# Altium schematic symbol library SchematicSymbols.SchLib: 9 symbols
Pins are listed as number, name and electrical type; pins without a type are passive.

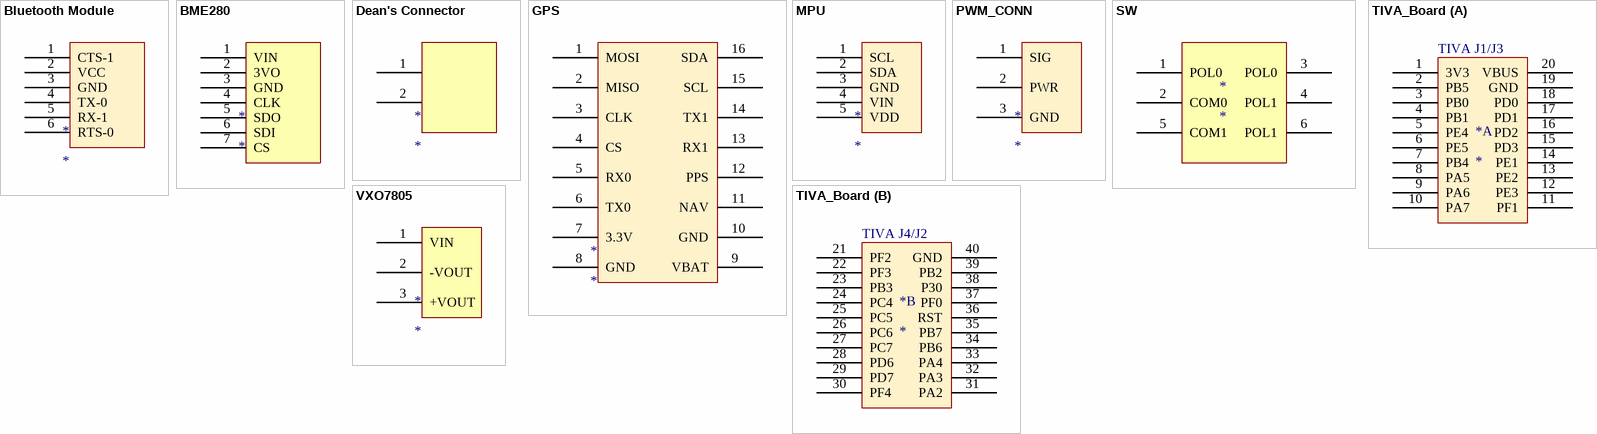
[diagram p0: symbols Bluetooth Module to VXO7805]

## Bluetooth Module
designator *
pins: 1 CTS-1, 2 VCC, 3 GND, 4 TX-0, 5 RX-1, 6 RTS-0

## BME280
designator *
footprint BME280
pins: 1 VIN, 2 3VO, 3 GND, 4 CLK, 5 SDO, 6 SDI, 7 CS

## Dean's Connector
designator *
footprint DEAN_CONN
pins: 1 (power), 2 (power)

## GPS
designator *
footprint GPS_FOOTPRINT
pins: 1 MOSI, 2 MISO, 3 CLK, 4 CS, 5 RX0, 6 TX0, 7 3.3V, 8 GND, 9 VBAT, 10 GND, 11 NAV, 12 PPS, 13 RX1, 14 TX1, 15 SCL, 16 SDA

## MPU
designator *
footprint MPU
pins: 1 SCL, 2 SDA, 3 GND, 4 VIN, 5 VDD

## PWM_CONN
designator *
pins: 1 SIG, 2 PWR, 3 GND

## SW
designator *
footprint SW
pins: 1 POL0, 2 COM0, 3 POL0, 4 POL1, 5 COM1, 6 POL1

## TIVA_Board
designator *
footprint TIVA_AB
part A pins: 1 3V3, 2 PB5, 3 PB0, 4 PB1, 5 PE4, 6 PE5, 7 PB4, 8 PA5, 9 PA6, 10 PA7, 11 PF1, 12 PE3, 13 PE2, 14 PE1, 15 PD3, 16 PD2, 17 PD1, 18 PD0, 19 GND, 20 VBUS
part B pins: 21 PF2, 22 PF3, 23 PB3, 24 PC4, 25 PC5, 26 PC6, 27 PC7, 28 PD6, 29 PD7, 30 PF4, 31 PA2, 32 PA3, 33 PA4, 34 PB6, 35 PB7, 36 RST, 37 PF0, 38 P30, 39 PB2, 40 GND
part A text: TIVA J1/J3
part B text: TIVA J4/J2

## VXO7805
designator *
footprint VXO78-1000
pins: 1 VIN, 2 -VOUT, 3 +VOUT